# Altium footprint library RHDR4W70P0X254_1X4_1056X250X865P.PcbLib: 1 footprints
Each footprint in its own frame and in the unit in brackets; x right, y up, seen from the top. Pads: shape width x height; smd on the part's side, far side on the other; paste and mask are expansions set on the pad; w line width, h text height; cw(c..) or ccw(c..) is an arc to the next point about the centre after c.
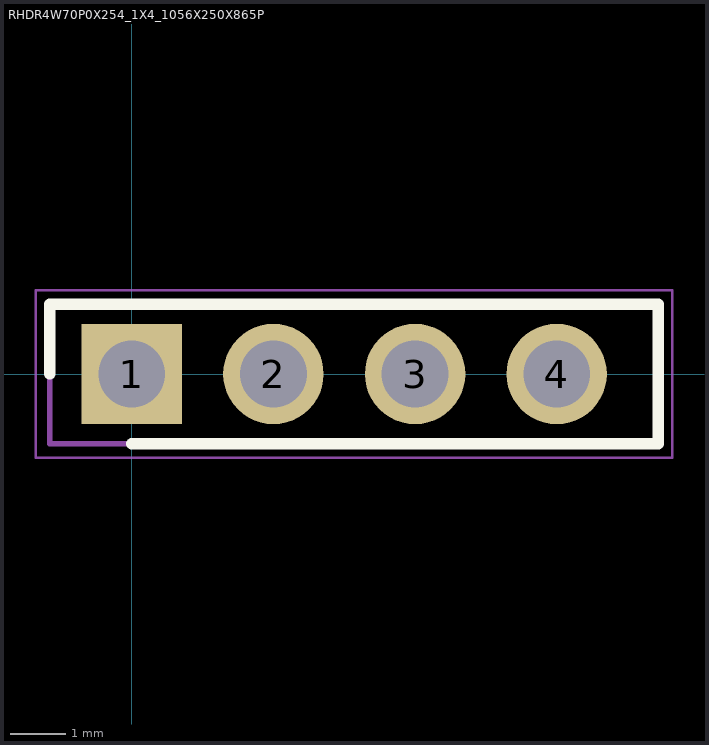
[diagram p0: the footprint, top view; thin cyan lines are the x and y axes]

## RHDR4W70P0X254_1X4_1056X250X865P [mm]
pads (4):
  rect 1.8x1.8 / inner round 1.8 / far side rect 1.8x1.8 hole 1.2: 1(0,0)
  round 1.8 hole 1.2: 2(2.54,0) 3(5.08,0) 4(7.62,0)
Top Overlay:
  lines w0.2: -1.47,0 -1.47,1.25 9.44,1.25 9.44,-1.25 0,-1.25
Mechanical 15:
  lines w0.1: -1.47,-1.25 -1.47,1.25 9.44,1.25 9.44,-1.25 -1.47,-1.25
Mechanical 20:
  lines w0.05: -1.72,-1.5 -1.72,1.5 9.69,1.5 9.69,-1.5 -1.72,-1.5